# EAGLE library part RPI_CAMERA (library openblw)
FFC/FPC CONNECTOR, RECEPTACLE 16POS 1ROW
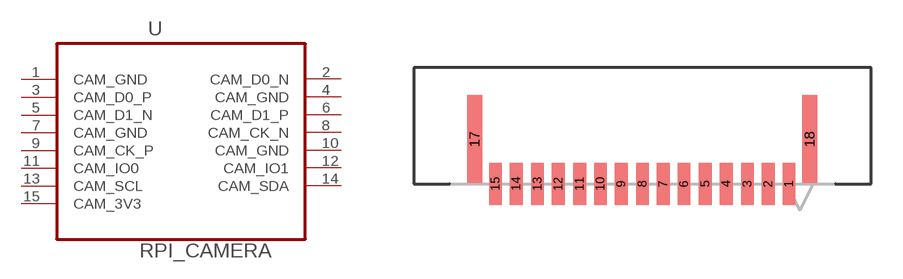
[diagram p1: symbol with the pads of RPI_CAMERA; footprint RPI_CAMERA]

Designator prefix U

## RPI_CAMERA (MPN: SFW16R-1STE1LF; OC_FARNELL: 1835594; OC_NEWARK: 62K5606; PACKAGE: CONNECTOR- 16POS; SUPPLIER: FCI)  [RPI_CAMERA]
1  CAM_GND  pas
2  CAM_D0_N  pas
3  CAM_D0_P  pas
4  CAM_GND  pas
5  CAM_D1_N  pas
6  CAM_D1_P  pas
7  CAM_GND  pas
8  CAM_CK_N  pas
9  CAM_CK_P  pas
10  CAM_GND  pas
11  CAM_IO0  pas
12  CAM_IO1  pas
13  CAM_SCL  pas
14  CAM_SDA  pas
15  CAM_3V3  pas

## Footprint RPI_CAMERA (pad centres in mm)
smd 0.61 x 2.007: 1 6.985,2.743; 2 5.994,2.743; 3 5.004,2.743; 4 3.988,2.743; 5 2.997,2.743; 6 1.981,2.743; 7 0.991,2.743; 8 0,2.743; 9 -1.016,2.743; 10 -2.007,2.743; 11 -2.997,2.743; 12 -4.013,2.743; 13 -5.004,2.743; 14 -6.02,2.743; 15 -7.01,2.743
smd 0.711 x 4.191: 17 -8.001,4.877; 18 7.976,4.877